# EAGLE library part BQ25570 (library Wisp5_Harvester_Motor-driver_V2)
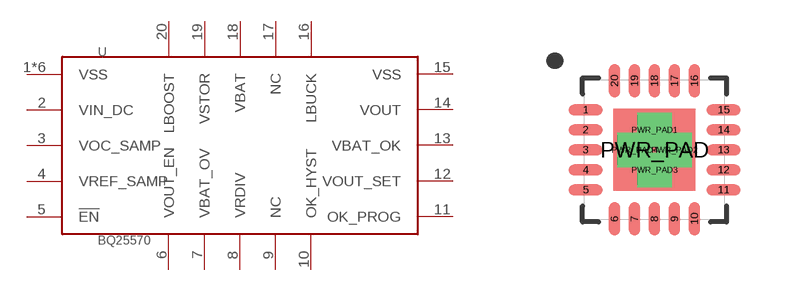
[diagram p1: symbol with the pads of VQFN20; footprint VQFN20]

Designator prefix -

## BQ25570  [VQFN20]
1  VSS  in
2  VIN_DC  in
3  VOC_SAMP  in
4  VREF_SAMP  in
5  !EN  in
6  VOUT_EN  in
7  VBAT_OV  in
8  VRDIV  out
9  NC  nc
10  OK_HYST  in
11  OK_PROG  in
12  VOUT_SET  in
13  VBAT_OK  out
14  VOUT  out
15  VSS  pwr
16  LBUCK
17  NC  nc
18  VBAT
19  VSTOR  out
20  LBOOST
PWR_PAD  VSS  in
PWR_PAD1  VSS  in
PWR_PAD2  VSS  in
PWR_PAD3  VSS  in
PWR_PAD4  VSS  in

## Footprint VQFN20 (pad centres in mm)
smd 0.85 x 0.28: 1 -1.725,1; 2 -1.725,0.5; 3 -1.725,0; 4 -1.725,-0.5; 5 -1.725,-1; 11 1.725,-1; 12 1.725,-0.5; 13 1.725,0; 14 1.725,0.5; 15 1.725,1
smd 0.28 x 0.85: 6 -1,-1.725; 7 -0.5,-1.725; 8 0,-1.725; 9 0.5,-1.725; 10 1,-1.725; 16 1,1.725; 17 0.5,1.725; 18 0,1.725; 19 -0.5,1.725; 20 -1,1.725
smd 2.05 x 2.05: PWR_PAD 0,0
drill 0.35 square: PWR_PAD1 0,0.5; PWR_PAD2 0.5,0; PWR_PAD3 0,-0.5; PWR_PAD4 -0.5,0